# EAGLE library part STP240240-0130A (library st7789)
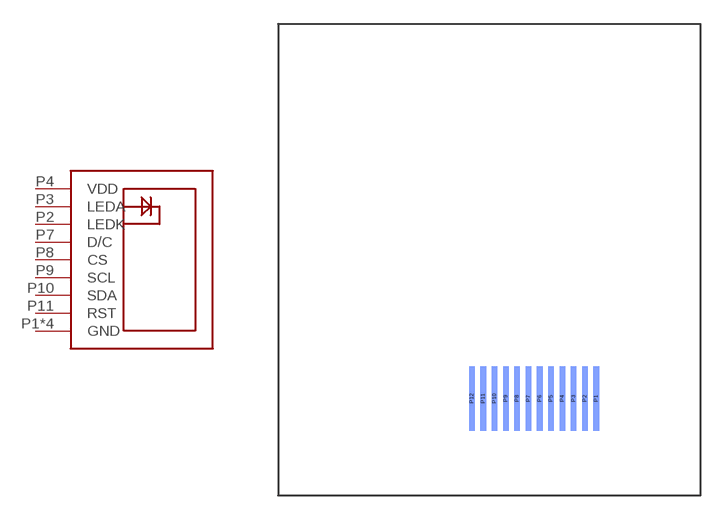
[diagram p0: symbol with the pads of STP240240-0130A; footprint STP240240-0130A]

Designator prefix -

## STP240240-0130A  [STP240240-0130A]
P1  GND
P2  LEDK
P3  LEDA
P4  VDD
P5  GND
P6  GND
P7  D/C
P8  CS
P9  SCL
P10  SDA
P11  RST
P12  GND

## Footprint STP240240-0130A (pad centres in mm)
smd 0.35 x 4 bottom: P1 19.7,6; P2 19,6; P3 18.3,6; P4 17.6,6; P5 16.9,6; P6 16.2,6; P7 15.5,6; P8 14.8,6; P9 14.1,6; P10 13.4,6; P11 12.7,6; P12 12,6